# EAGLE library part SW-DPDT (library magzor)
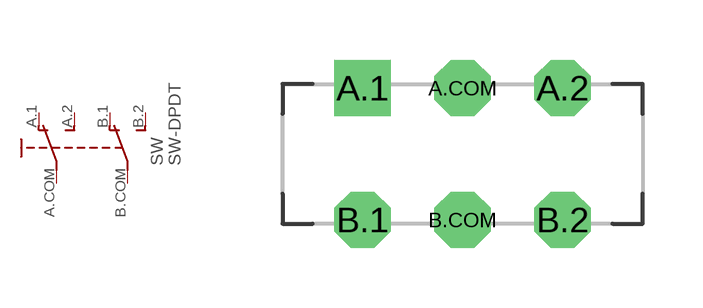
[diagram p19: symbol with the pads of JS202011CQN; footprint JS202011CQN]

Designator prefix SW

## SW-DPDT-JS202011  [JS202011CQN]
A.1  O  pas
A.2  S  pas
A.COM  P  pas
B.1  O1  pas
B.2  S1  pas
B.COM  P1  pas

## Footprint JS202011CQN (pad centres in mm)
C&K DPDT slide switch, 9mm x 3.5mm
drill 0.9 square: A.1 -2.5,1.65
drill 0.9 octagon: A.2 2.5,1.65; A.COM 0,1.65; B.1 -2.5,-1.65; B.2 2.5,-1.65; B.COM 0,-1.65